# Altium footprint library PcbLib1.PcbLib: 11 footprints
Each footprint in its own frame and in the unit in brackets; x right, y up, seen from the top. Pads: shape width x height; smd on the part's side, far side on the other; paste and mask are expansions set on the pad; w line width, h text height; cw(c..) or ccw(c..) is an arc to the next point about the centre after c.
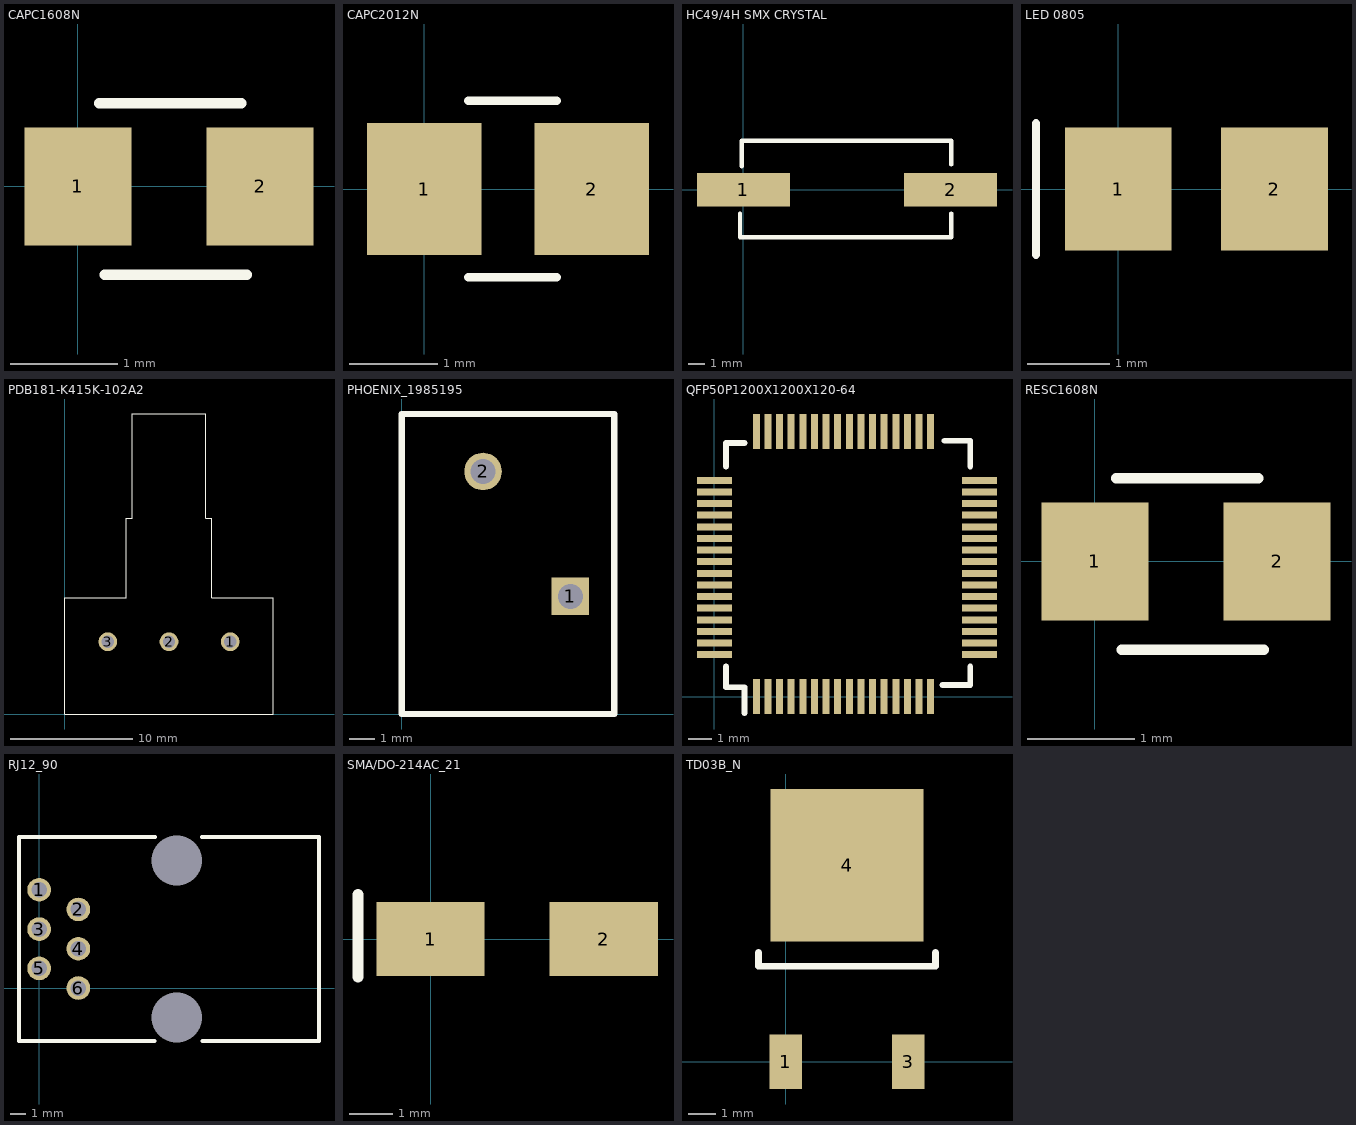
[diagram p0: the footprints below, top view; thin cyan lines are the x and y axes]

## CAPC1608N [mm]
height 0.6
pads (2):
  rect 1x1.1 smd: 1(0,0) 2(1.7,0)
Top Overlay:
  lines w0.1: 0.2,0.775 1.525,0.775 ; 0.25,-0.825 1.575,-0.825

## CAPC2012N [mm]
height 0.65
pads (2):
  rect 1.3x1.5 smd: 1(0,0) 2(1.9,0)
Top Overlay:
  lines w0.1: 0.5,-1 1.5,-1 ; 0.5,1 1.5,1

## HC49/4H SMX CRYSTAL [mm]
height 4.5
pads (2):
  rect 5.5x2 smd: 1(0,0) 2(12.25,0)
Top Overlay:
  lines w0.254: -0.2,-1.4 -0.2,-2.8 12.3,-2.8 12.3,-1.4 ; -0.1,1.4 -0.1,2.9 12.3,2.9 12.3,1.5

## LED 0805 [mm]
height 0.65
pads (2):
  rect 1.3x1.5 smd: 1(0,0) 2(1.9,0)
Top Overlay:
  lines w0.1: -1,-0.8 -1,0.8

## PDB181-K415K-102A2 [mm]
height 9.5
pads (3):
  round 1.524 hole 1: 1(13.5,5.9) 2(8.5,5.9) 3(3.5,5.9)
Top Overlay:
  lines w0.1: 0,0 17,0 17,9.5 12,9.5 12,16 11.5,16 11.5,24.5 5.5,24.5 5.5,16 5,16 5,9.5 0,9.5 0,0

## PHOENIX_1985195 [mm]
height 13.1
pads (2):
  rect 1.5x1.5 hole 1: 1(6.75,4.7)
  round 1.5 hole 1: 2(3.25,9.7)
Top Overlay:
  lines w0.254: 0,0 0,12 8.5,12 8.5,0 0,0

## QFP50P1200X1200X120-64 [mm]
height 2
pads (64):
  rect 0.3x1.5 smd: 1(1.8,0) 2(2.3,0) 3(2.8,0) 4(3.3,0) 5(3.8,0) 6(4.3,0) 7(4.8,0) 8(5.3,0) 9(5.8,0) 10(6.3,0) 11(6.8,0) 12(7.3,0) 13(7.8,0) 14(8.3,0) 15(8.8,0) 16(9.3,0) 33(9.3,11.4) 34(8.8,11.4) 35(8.3,11.4) 36(7.8,11.4) 37(7.3,11.4) 38(6.8,11.4) 39(6.3,11.4) 40(5.8,11.4) 41(5.3,11.4) 42(4.8,11.4) 43(4.3,11.4) 44(3.8,11.4) 45(3.3,11.4) 46(2.8,11.4) 47(2.3,11.4) 48(1.8,11.4)
  rect 1.5x0.3 smd: 17(11.4,1.8) 18(11.4,2.3) 19(11.4,2.8) 20(11.4,3.3) 21(11.4,3.8) 22(11.4,4.3) 23(11.4,4.8) 24(11.4,5.3) 25(11.4,5.8) 26(11.4,6.3) 27(11.4,6.8) 28(11.4,7.3) 29(11.4,7.8) 30(11.4,8.3) 31(11.4,8.8) 32(11.4,9.3) 49(0,9.3) 50(0,8.8) 51(0,8.3) 52(0,7.8) 53(0,7.3) 54(0,6.8) 55(0,6.3) 56(0,5.8) 57(0,5.3) 58(0,4.8) 59(0,4.3) 60(0,3.8) 61(0,3.3) 62(0,2.8) 63(0,2.3) 64(0,1.8)
Top Overlay:
  lines w0.254: 0.5,1.3 0.5,0.4 1.3,0.4 1.3,-0.7 ; 0.5,9.9 0.5,10.9 1.3,10.9 ; 9.8,0.5 11,0.5 11,1.3 ; 9.9,11 11,11 11,9.9

## RESC1608N [mm]
height 0.6
pads (2):
  rect 1x1.1 smd: 1(0,0) 2(1.7,0)
Top Overlay:
  lines w0.1: 0.2,0.775 1.525,0.775 ; 0.25,-0.825 1.575,-0.825

## RJ12_90 [mil]
height 452.76
pads (8):
  round 60 hole 39.37: 1(0,250) 2(100,200) 3(0,150) 4(100,100) 5(0,50) 6(100,0)
  round 60 hole 127.95 unplated: ""(350.39,-75.2) ""(350.39,324.8)
Top Overlay:
  lines w10: 294.29,-134.84 -51.18,-134.84 -51.18,384.84 295.28,384.84 ; 414.37,384.84 712.6,384.84 712.6,-134.84 416.34,-134.84

## SMA/DO-214AC_21 [mm]
height 2.4
pads (2):
  rect 2.5x1.7 smd: 1(0,0) 2(4,0)
Top Overlay:
  lines w0.254: -1.675,-0.875 -1.675,1.025 ; -1.675,0.075 -1.675,0.6

## TD03B_N [mm]
height 2.29
pads (3):
  rect 1.2x2 smd: 1(0,0) 3(4.5,0)
  rect 5.6x5.6 smd: 4(2.25,7.2)
Top Overlay:
  lines w0.254: -1,4 -1,3.5 5.5,3.5 5.5,4